# Altium schematic symbol library LM2576.SCHLIB: 1 symbol
Pins are listed as number, name and electrical type; pins without a type are passive.

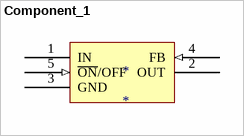
[diagram p0: symbol Component_1]

## Component_1
designator *
pins: 1 IN, 2 OUT, 3 GND, 4 FB (in), 5 ~{ON}/OFF (in)